# EAGLE library part PIC32MX795F512-H (library PonLib)
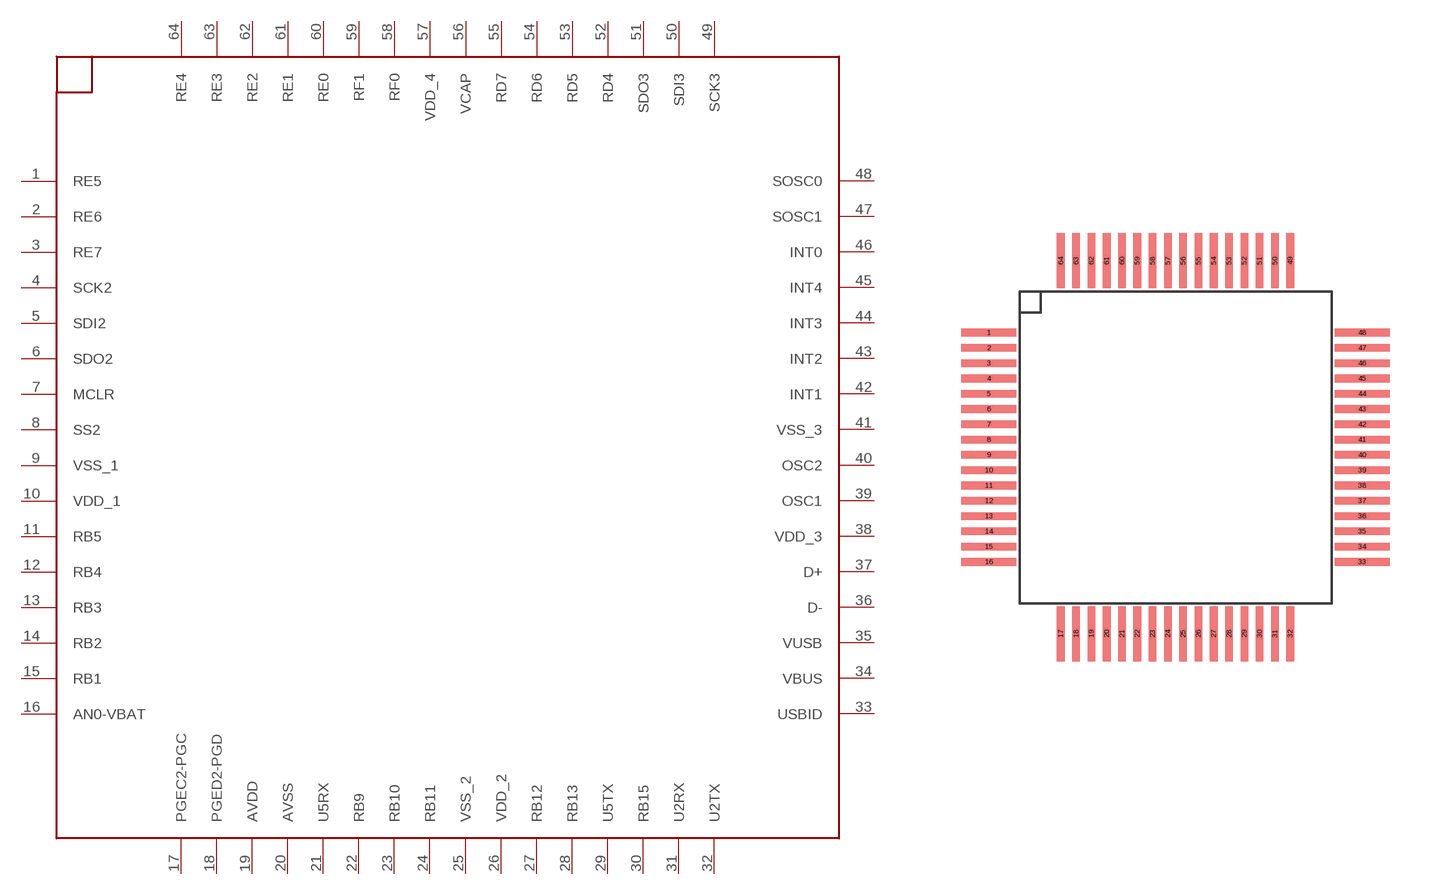
[diagram p7: symbol with the pads of TQFP-64-0.5-MICROCHIP; footprint TQFP-64-0.5-MICROCHIP]

Designator prefix -

## PIC32MX795F512-H  [TQFP-64-0.5-MICROCHIP]
1  RE5
2  RE6
3  RE7
4  SCK2
5  SDI2
6  SDO2
7  MCLR
8  SS2
9  VSS_1
10  VDD_1
11  RB5
12  RB4
13  RB3
14  RB2
15  RB1
16  AN0-VBAT
17  PGEC2-PGC
18  PGED2-PGD
19  AVDD
20  AVSS
21  U5RX
22  RB9
23  RB10
24  RB11
25  VSS_2
26  VDD_2
27  RB12
28  RB13
29  U5TX
30  RB15
31  U2RX
32  U2TX
33  USBID
34  VBUS
35  VUSB
36  D-
37  D+
38  VDD_3
39  OSC1
40  OSC2
41  VSS_3
42  INT1
43  INT2
44  INT3
45  INT4
46  INT0
47  SOSC1
48  SOSC0
49  SCK3
50  SDI3
51  SDO3
52  RD4
53  RD5
54  RD6
55  RD7
56  VCAP
57  VDD_4
58  RF0
59  RF1
60  RE0
61  RE1
62  RE2
63  RE3
64  RE4

## Footprint TQFP-64-0.5-MICROCHIP (pad centres in mm)
smd 1.8 x 0.25: 1 -6.1,3.75; 2 -6.1,3.25; 3 -6.1,2.75; 4 -6.1,2.25; 5 -6.1,1.75; 6 -6.1,1.25; 7 -6.1,0.75; 8 -6.1,0.25; 9 -6.1,-0.25; 10 -6.1,-0.75; 11 -6.1,-1.25; 12 -6.1,-1.75; 13 -6.1,-2.25; 14 -6.1,-2.75; 15 -6.1,-3.25; 16 -6.1,-3.75; 33 6.1,-3.75; 34 6.1,-3.25; 35 6.1,-2.75; 36 6.1,-2.25; 37 6.1,-1.75; 38 6.1,-1.25; 39 6.1,-0.75; 40 6.1,-0.25; 41 6.1,0.25; 42 6.1,0.75; 43 6.1,1.25; 44 6.1,1.75; 45 6.1,2.25; 46 6.1,2.75; 47 6.1,3.25; 48 6.1,3.75
smd 0.25 x 1.8: 17 -3.75,-6.1; 18 -3.25,-6.1; 19 -2.75,-6.1; 20 -2.25,-6.1; 21 -1.75,-6.1; 22 -1.25,-6.1; 23 -0.75,-6.1; 24 -0.25,-6.1; 25 0.25,-6.1; 26 0.75,-6.1; 27 1.25,-6.1; 28 1.75,-6.1; 29 2.25,-6.1; 30 2.75,-6.1; 31 3.25,-6.1; 32 3.75,-6.1; 49 3.75,6.1; 50 3.25,6.1; 51 2.75,6.1; 52 2.25,6.1; 53 1.75,6.1; 54 1.25,6.1; 55 0.75,6.1; 56 0.25,6.1; 57 -0.25,6.1; 58 -0.75,6.1; 59 -1.25,6.1; 60 -1.75,6.1; 61 -2.25,6.1; 62 -2.75,6.1; 63 -3.25,6.1; 64 -3.75,6.1